# Altium footprint library PCB - LEADED - SOP - AD TSSOP-14 RU-14.PcbLib: 1 footprints
Each footprint in its own frame and in the unit in brackets; x right, y up, seen from the top. Pads: shape width x height; smd on the part's side, far side on the other; paste and mask are expansions set on the pad; w line width, h text height; cw(c..) or ccw(c..) is an arc to the next point about the centre after c.
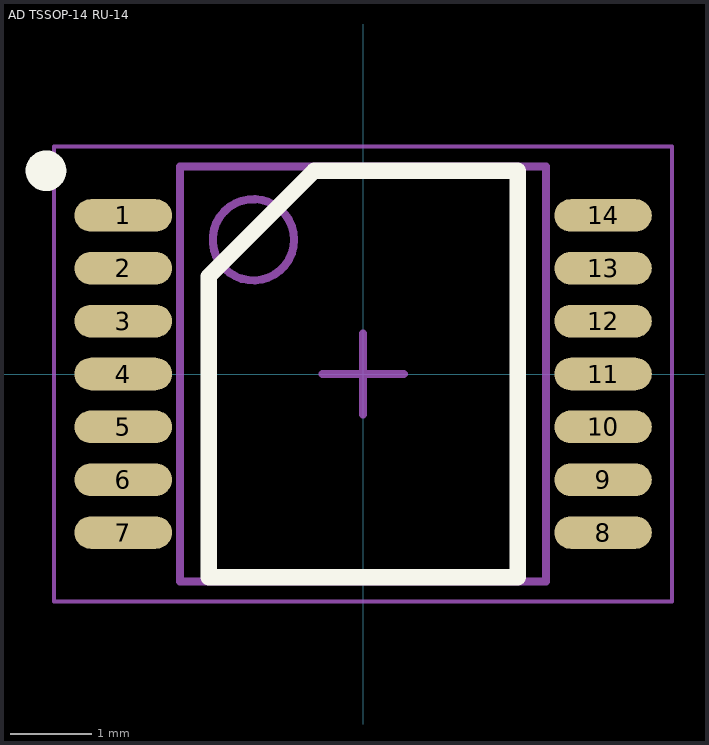
[diagram p0: the footprint, top view; thin cyan lines are the x and y axes]

## AD TSSOP-14 RU-14 [mm] "TSSOP, 14-Leads, Body 5.00x4.40mm, Pitch 0.65mm"
height 1.2
pads (14):
  oval 1.2x0.4 smd: 1(-2.95,1.95) 2(-2.95,1.3) 3(-2.95,0.65) 4(-2.95,0) 5(-2.95,-0.65) 6(-2.95,-1.3) 7(-2.95,-1.95) 8(2.95,-1.95) 9(2.95,-1.3) 10(2.95,-0.65) 11(2.95,0) 12(2.95,0.65) 13(2.95,1.3) 14(2.95,1.95)
Top Overlay:
  circle w0.25: c-3.9,2.5 r0.125
  lines w0.2: -1.9,-2.5 -1.9,1.2 -0.6,2.5 1.9,2.5 1.9,-2.5 -1.9,-2.5
Mechanical 13:
  circle w0.1: c-1.35,1.65 r0.5
  lines w0.1: -2.25,-2.55 -2.25,2.55 2.25,2.55 2.25,-2.55 -2.25,-2.55
Mechanical 15:
  lines w0.05: -3.8,-2.8 -3.8,2.8 3.8,2.8 3.8,-2.8 -3.8,-2.8
  lines w0.1: -0.5,0 0.5,0 ; 0,-0.5 0,0.5
3D body "AD TSSOP-14 RU-14.step": height 1.2, standoff 0, extent -3.2,-2.55 3.2,2.55